# EAGLE library part RHF0M062 (library SamacSys_Parts)
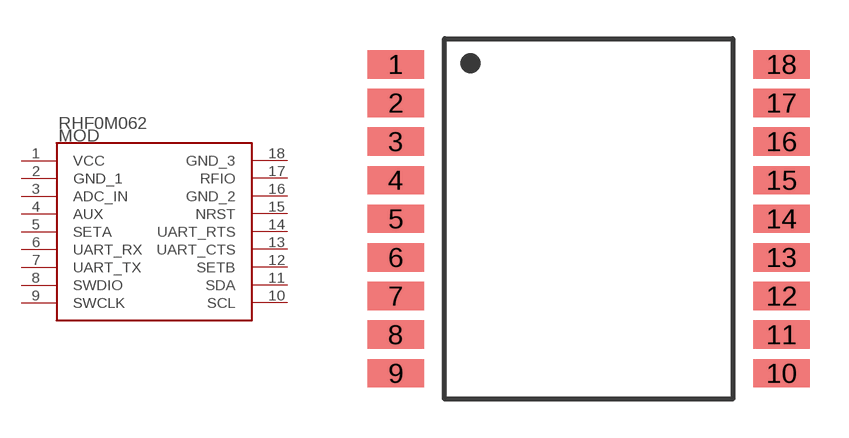
[diagram p23: symbol with the pads of RHF0M062; footprint RHF0M062]

Designator prefix MOD

## RHF0M062  [RHF0M062]
1  VCC  pwr
2  GND_1  pwr
3  ADC_IN
4  AUX
5  SETA
6  UART_RX
7  UART_TX
8  SWDIO
9  SWCLK
10  SCL
11  SDA
12  SETB
13  UART_CTS
14  UART_RTS
15  NRST
16  GND_2  pwr
17  RFIO
18  GND_3  pwr

## Footprint RHF0M062 (pad centres in mm)
smd 2.2 x 1.1: 1 -7.5,6; 2 -7.5,4.5; 3 -7.5,3; 4 -7.5,1.5; 5 -7.5,0; 6 -7.5,-1.5; 7 -7.5,-3; 8 -7.5,-4.5; 9 -7.5,-6; 10 7.5,-6; 11 7.5,-4.5; 12 7.5,-3; 13 7.5,-1.5; 14 7.5,0; 15 7.5,1.5; 16 7.5,3; 17 7.5,4.5; 18 7.5,6